# EAGLE library part AD584 (library ic)
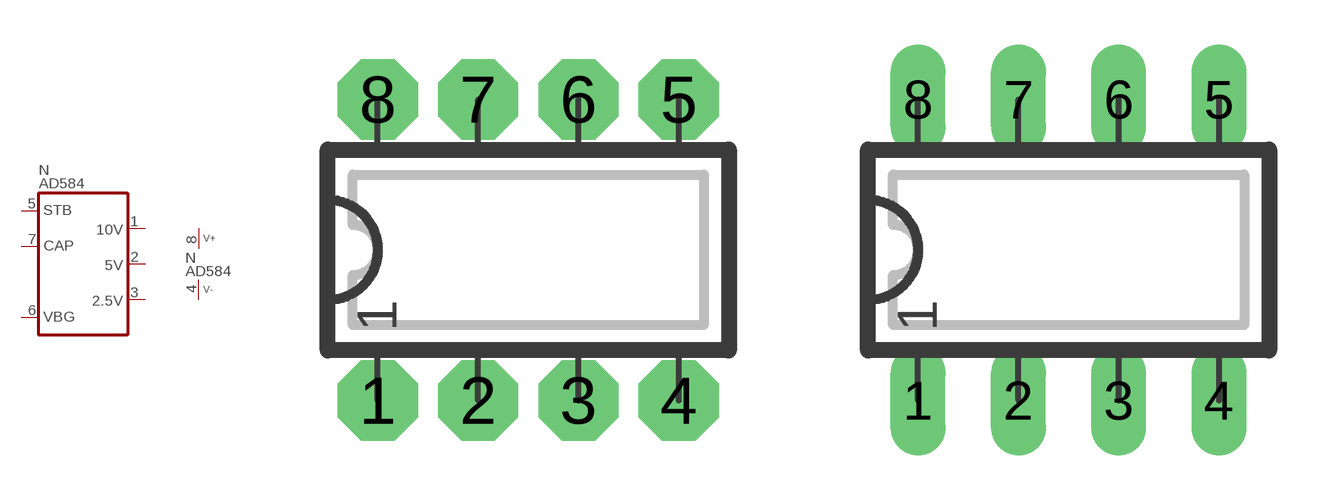
[diagram p33: symbol with the pads of DIP08N; footprints DIP08N, DIP08L]

Designator prefix N; gates  =AD584 P=V+-

## AD584N  [DIP08N]
1   :10V  out
2   :5V  out
3   :2.5V  out
4  P:V-  pwr
5   :STB  in
6   :VBG
7   :CAP
8  P:V+  pwr

## AD584  [DIP08L]
Pads as for DIP08N

## AD584L  [DIP08L]
Pads as for DIP08N

## AD584R  [DIP08R]
Pads as for DIP08N

## Footprint DIP08N (pad centres in mm)
DIP-8 Standard IC package, 8 pins
drill 0.813 pad 2.032 octagon: 1 -3.81,-3.81; 2 -1.27,-3.81; 3 1.27,-3.81; 4 3.81,-3.81; 5 3.81,3.81; 6 1.27,3.81; 7 -1.27,3.81; 8 -3.81,3.81

## Footprint DIP08L (pad centres in mm)
DIP-8, long pads Standard IC package, 8 pins
drill 0.813 pad 1.397 long: 1 -3.81,-3.81; 2 -1.27,-3.81; 3 1.27,-3.81; 4 3.81,-3.81; 5 3.81,3.81; 6 1.27,3.81; 7 -1.27,3.81; 8 -3.81,3.81

## Footprint DIP08R (pad centres in mm)
DIP-8, reduced pads Standard IC package, 8 pins
drill 0.813 pad 1.397 square: 1 -3.81,-3.81; 2 -1.27,-3.81; 3 1.27,-3.81; 4 3.81,-3.81; 5 3.81,3.81; 6 1.27,3.81; 7 -1.27,3.81; 8 -3.81,3.81